# EAGLE library part XC3S200AFT256 (library xilinx_spartan3_virtex4_and_5)
Xilinx FPGA
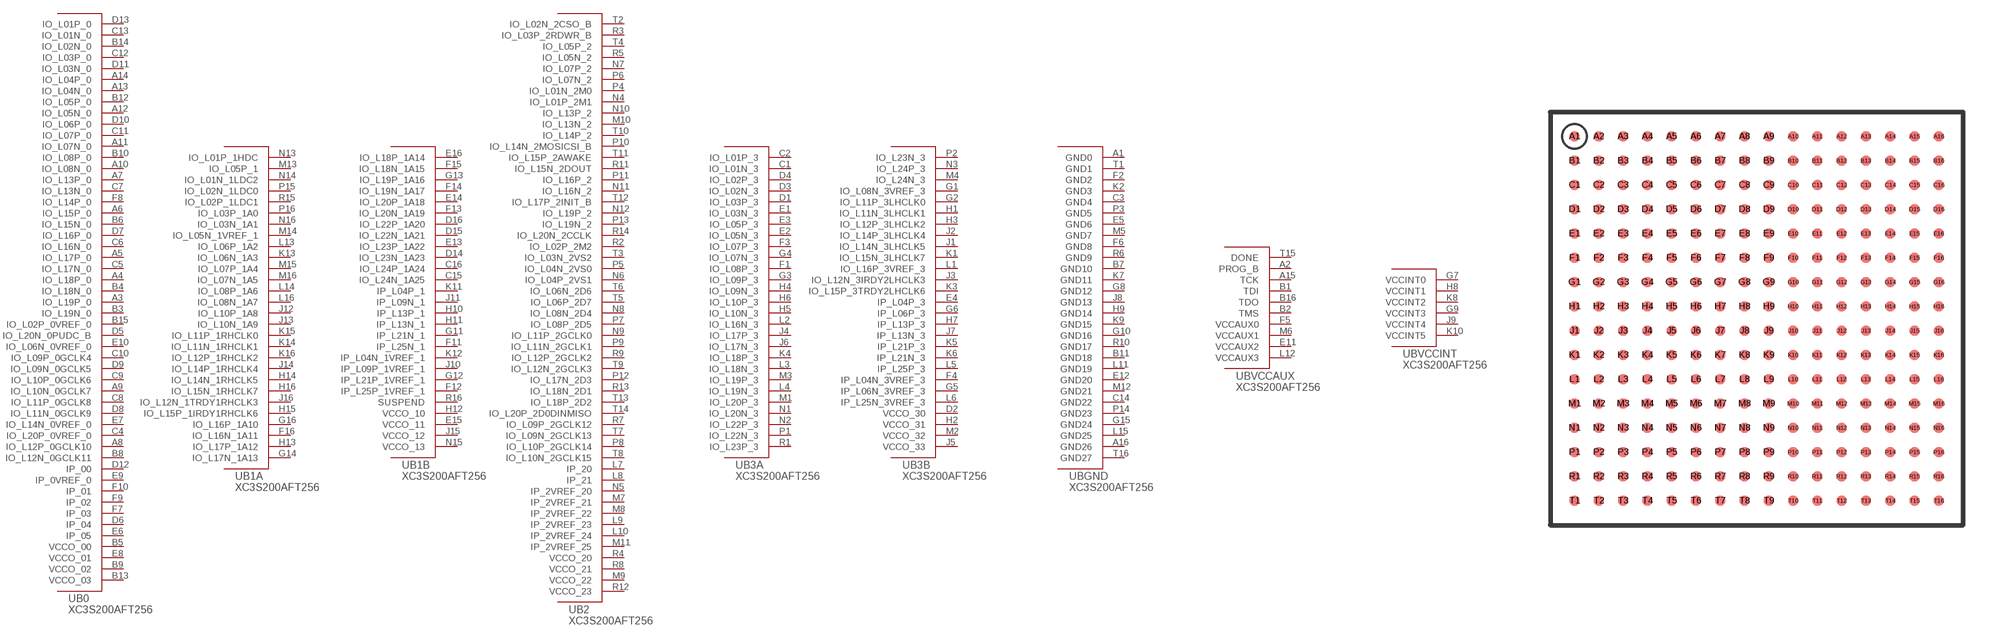
[diagram p31: symbol with the pads of FT256; footprint FT256]

Designator prefix U; gates B0=XC3S200AFT256_0 B1A=XC3S200AFT256_1A B1B=XC3S200AFT256_1B B2=XC3S200AFT256_2 B3A=XC3S200AFT256_3A B3B=XC3S200AFT256_3B BGND=XC3S200AFT256_GND BVCCAUX=XC3S200AFT256_VCCAUX BVCCINT=XC3S200AFT256_VCCINT

## XC3S200AFT256  [FT256]
A1  BGND:GND0  pas
A2  BVCCAUX:PROG_B
A3  B0:IO_L19P_0
A4  B0:IO_L18P_0
A5  B0:IO_L17P_0
A6  B0:IO_L15P_0
A7  B0:IO_L13P_0
A8  B0:IO_L12P_0GCLK10
A9  B0:IO_L10N_0GCLK7
A10  B0:IO_L08N_0
A11  B0:IO_L07N_0
A12  B0:IO_L05N_0
A13  B0:IO_L04N_0
A14  B0:IO_L04P_0
A15  BVCCAUX:TCK
A16  BGND:GND26  pas
B1  BVCCAUX:TDI
B2  BVCCAUX:TMS
B3  B0:IO_L19N_0
B4  B0:IO_L18N_0
B5  B0:VCCO_00  pas
B6  B0:IO_L15N_0
B7  BGND:GND10  pas
B8  B0:IO_L12N_0GCLK11
B9  B0:VCCO_02  pas
B10  B0:IO_L08P_0
B11  BGND:GND18  pas
B12  B0:IO_L05P_0
B13  B0:VCCO_03  pas
B14  B0:IO_L02N_0
B15  B0:IO_L02P_0VREF_0
B16  BVCCAUX:TDO
C1  B3A:IO_L01N_3
C2  B3A:IO_L01P_3
C3  BGND:GND4  pas
C4  B0:IO_L20P_0VREF_0
C5  B0:IO_L17N_0
C6  B0:IO_L16N_0
C7  B0:IO_L13N_0
C8  B0:IO_L11P_0GCLK8
C9  B0:IO_L10P_0GCLK6
C10  B0:IO_L09P_0GCLK4
C11  B0:IO_L07P_0
C12  B0:IO_L03P_0
C13  B0:IO_L01N_0
C14  BGND:GND22  pas
C15  B1B:IO_L24N_1A25
C16  B1B:IO_L24P_1A24
D1  B3A:IO_L03P_3
D2  B3B:VCCO_30  pas
D3  B3A:IO_L02N_3
D4  B3A:IO_L02P_3
D5  B0:IO_L20N_0PUDC_B
D6  B0:IP_04
D7  B0:IO_L16P_0
D8  B0:IO_L11N_0GCLK9
D9  B0:IO_L09N_0GCLK5
D10  B0:IO_L06P_0
D11  B0:IO_L03N_0
D12  B0:IP_00
D13  B0:IO_L01P_0
D14  B1B:IO_L23N_1A23
D15  B1B:IO_L22N_1A21
D16  B1B:IO_L22P_1A20
E1  B3A:IO_L03N_3
E2  B3A:IO_L05N_3
E3  B3A:IO_L05P_3
E4  B3B:IP_L04P_3
E5  BGND:GND6  pas
E6  B0:IP_05
E7  B0:IO_L14N_0VREF_0
E8  B0:VCCO_01  pas
E9  B0:IP_0VREF_0
E10  B0:IO_L06N_0VREF_0
E11  BVCCAUX:VCCAUX2  pas
E12  BGND:GND20  pas
E13  B1B:IO_L23P_1A22
E14  B1B:IO_L20P_1A18
E15  B1B:VCCO_11  pas
E16  B1B:IO_L18P_1A14
F1  B3A:IO_L08P_3
F2  BGND:GND2  pas
F3  B3A:IO_L07P_3
F4  B3B:IP_L04N_3VREF_3
F5  BVCCAUX:VCCAUX0  pas
F6  BGND:GND8  pas
F7  B0:IP_03
F8  B0:IO_L14P_0
F9  B0:IP_02
F10  B0:IP_01
F11  B1B:IP_L25N_1
F12  B1B:IP_L25P_1VREF_1
F13  B1B:IO_L20N_1A19
F14  B1B:IO_L19N_1A17
F15  B1B:IO_L18N_1A15
F16  B1A:IO_L16N_1A11
G1  B3B:IO_L08N_3VREF_3
G2  B3B:IO_L11P_3LHCLK0
G3  B3A:IO_L09P_3
G4  B3A:IO_L07N_3
G5  B3B:IP_L06N_3VREF_3
G6  B3B:IP_L06P_3
G7  BVCCINT:VCCINT0  pas
G8  BGND:GND12  pas
G9  BVCCINT:VCCINT3  pas
G10  BGND:GND16  pas
G11  B1B:IP_L21N_1
G12  B1B:IP_L21P_1VREF_1
G13  B1B:IO_L19P_1A16
G14  B1A:IO_L17N_1A13
G15  BGND:GND24  pas
G16  B1A:IO_L16P_1A10
H1  B3B:IO_L11N_3LHCLK1
H2  B3B:VCCO_31  pas
H3  B3B:IO_L12P_3LHCLK2
H4  B3A:IO_L09N_3
H5  B3A:IO_L10N_3
H6  B3A:IO_L10P_3
H7  B3B:IP_L13P_3
H8  BVCCINT:VCCINT1  pas
H9  BGND:GND14  pas
H10  B1B:IP_L13P_1
H11  B1B:IP_L13N_1
H12  B1B:VCCO_10  pas
H13  B1A:IO_L17P_1A12
H14  B1A:IO_L14N_1RHCLK5
H15  B1A:IO_L15P_1IRDY1RHCLK6
H16  B1A:IO_L15N_1RHCLK7
J1  B3B:IO_L14N_3LHCLK5
J2  B3B:IO_L14P_3LHCLK4
J3  B3B:IO_L12N_3IRDY2LHCLK3
J4  B3A:IO_L17P_3
J5  B3B:VCCO_33  pas
J6  B3A:IO_L17N_3
J7  B3B:IP_L13N_3
J8  BGND:GND13  pas
J9  BVCCINT:VCCINT4  pas
J10  B1B:IP_L09P_1VREF_1
J11  B1B:IP_L09N_1
J12  B1A:IO_L10P_1A8
J13  B1A:IO_L10N_1A9
J14  B1A:IO_L14P_1RHCLK4
J15  B1B:VCCO_12  pas
J16  B1A:IO_L12N_1TRDY1RHCLK3
K1  B3B:IO_L15N_3LHCLK7
K2  BGND:GND3  pas
K3  B3B:IO_L15P_3TRDY2LHCLK6
K4  B3A:IO_L18P_3
K5  B3B:IP_L21P_3
K6  B3B:IP_L21N_3
K7  BGND:GND11  pas
K8  BVCCINT:VCCINT2  pas
K9  BGND:GND15  pas
K10  BVCCINT:VCCINT5  pas
K11  B1B:IP_L04P_1
K12  B1B:IP_L04N_1VREF_1
K13  B1A:IO_L06N_1A3
K14  B1A:IO_L11N_1RHCLK1
K15  B1A:IO_L11P_1RHCLK0
K16  B1A:IO_L12P_1RHCLK2
L1  B3B:IO_L16P_3VREF_3
L2  B3A:IO_L16N_3
L3  B3A:IO_L18N_3
L4  B3A:IO_L19N_3
L5  B3B:IP_L25P_3
L6  B3B:IP_L25N_3VREF_3
L7  B2:IP_20
L8  B2:IP_21
L9  B2:IP_2VREF_23
L10  B2:IP_2VREF_24
L11  BGND:GND19  pas
L12  BVCCAUX:VCCAUX3  pas
L13  B1A:IO_L06P_1A2
L14  B1A:IO_L08P_1A6
L15  BGND:GND25  pas
L16  B1A:IO_L08N_1A7
M1  B3A:IO_L20P_3
M2  B3B:VCCO_32  pas
M3  B3A:IO_L19P_3
M4  B3B:IO_L24N_3
M5  BGND:GND7  pas
M6  BVCCAUX:VCCAUX1  pas
M7  B2:IP_2VREF_21
M8  B2:IP_2VREF_22
M9  B2:VCCO_22  pas
M10  B2:IO_L13N_2
M11  B2:IP_2VREF_25
M12  BGND:GND21  pas
M13  B1A:IO_L05P_1
M14  B1A:IO_L05N_1VREF_1
M15  B1A:IO_L07P_1A4
M16  B1A:IO_L07N_1A5
N1  B3A:IO_L20N_3
N2  B3A:IO_L22P_3
N3  B3B:IO_L24P_3
N4  B2:IO_L01P_2M1
N5  B2:IP_2VREF_20
N6  B2:IO_L04P_2VS1
N7  B2:IO_L07P_2
N8  B2:IO_L08N_2D4
N9  B2:IO_L11P_2GCLK0
N10  B2:IO_L13P_2
N11  B2:IO_L16N_2
N12  B2:IO_L19P_2
N13  B1A:IO_L01P_1HDC
N14  B1A:IO_L01N_1LDC2
N15  B1B:VCCO_13  pas
N16  B1A:IO_L03N_1A1
P1  B3A:IO_L22N_3
P2  B3B:IO_L23N_3
P3  BGND:GND5  pas
P4  B2:IO_L01N_2M0
P5  B2:IO_L04N_2VS0
P6  B2:IO_L07N_2
P7  B2:IO_L08P_2D5
P8  B2:IO_L10P_2GCLK14
P9  B2:IO_L11N_2GCLK1
P10  B2:IO_L14N_2MOSICSI_B
P11  B2:IO_L16P_2
P12  B2:IO_L17N_2D3
P13  B2:IO_L19N_2
P14  BGND:GND23  pas
P15  B1A:IO_L02N_1LDC0
P16  B1A:IO_L03P_1A0
R1  B3A:IO_L23P_3
R2  B2:IO_L02P_2M2
R3  B2:IO_L03P_2RDWR_B
R4  B2:VCCO_20  pas
R5  B2:IO_L05N_2
R6  BGND:GND9  pas
R7  B2:IO_L09P_2GCLK12
R8  B2:VCCO_21  pas
R9  B2:IO_L12P_2GCLK2
R10  BGND:GND17  pas
R11  B2:IO_L15N_2DOUT
R12  B2:VCCO_23  pas
R13  B2:IO_L18N_2D1
R14  B2:IO_L20N_2CCLK
R15  B1A:IO_L02P_1LDC1
R16  B1B:SUSPEND
T1  BGND:GND1  pas
T2  B2:IO_L02N_2CSO_B
T3  B2:IO_L03N_2VS2
T4  B2:IO_L05P_2
T5  B2:IO_L06P_2D7
T6  B2:IO_L06N_2D6
T7  B2:IO_L09N_2GCLK13
T8  B2:IO_L10N_2GCLK15
T9  B2:IO_L12N_2GCLK3
T10  B2:IO_L14P_2
T11  B2:IO_L15P_2AWAKE
T12  B2:IO_L17P_2INIT_B
T13  B2:IO_L18P_2D2
T14  B2:IO_L20P_2D0DINMISO
T15  BVCCAUX:DONE
T16  BGND:GND27  pas

## Footprint FT256 (pad centres in mm)
smd 0.4 x 0.4: A1 -7.5,7.5; A2 -6.5,7.5; A3 -5.5,7.5; A4 -4.5,7.5; A5 -3.5,7.5; A6 -2.5,7.5; A7 -1.5,7.5; A8 -0.5,7.5; A9 0.5,7.5; A10 1.5,7.5; A11 2.5,7.5; A12 3.5,7.5; A13 4.5,7.5; A14 5.5,7.5; A15 6.5,7.5; A16 7.5,7.5; B1 -7.5,6.5; B2 -6.5,6.5; B3 -5.5,6.5; B4 -4.5,6.5; B5 -3.5,6.5; B6 -2.5,6.5; B7 -1.5,6.5; B8 -0.5,6.5; B9 0.5,6.5; B10 1.5,6.5; B11 2.5,6.5; B12 3.5,6.5; B13 4.5,6.5; B14 5.5,6.5; B15 6.5,6.5; B16 7.5,6.5; C1 -7.5,5.5; C2 -6.5,5.5; C3 -5.5,5.5; C4 -4.5,5.5; C5 -3.5,5.5; C6 -2.5,5.5; C7 -1.5,5.5; C8 -0.5,5.5; C9 0.5,5.5; C10 1.5,5.5; C11 2.5,5.5; C12 3.5,5.5; C13 4.5,5.5; C14 5.5,5.5; C15 6.5,5.5; C16 7.5,5.5; D1 -7.5,4.5; D2 -6.5,4.5; D3 -5.5,4.5; D4 -4.5,4.5; D5 -3.5,4.5; D6 -2.5,4.5; D7 -1.5,4.5; D8 -0.5,4.5; D9 0.5,4.5; D10 1.5,4.5; D11 2.5,4.5; D12 3.5,4.5; D13 4.5,4.5; D14 5.5,4.5; D15 6.5,4.5; D16 7.5,4.5; E1 -7.5,3.5; E2 -6.5,3.5; E3 -5.5,3.5; E4 -4.5,3.5; E5 -3.5,3.5; E6 -2.5,3.5; E7 -1.5,3.5; E8 -0.5,3.5; E9 0.5,3.5; E10 1.5,3.5; E11 2.5,3.5; E12 3.5,3.5; E13 4.5,3.5; E14 5.5,3.5; E15 6.5,3.5; E16 7.5,3.5; F1 -7.5,2.5; F2 -6.5,2.5; F3 -5.5,2.5; F4 -4.5,2.5; F5 -3.5,2.5; F6 -2.5,2.5; F7 -1.5,2.5; F8 -0.5,2.5; F9 0.5,2.5; F10 1.5,2.5; F11 2.5,2.5; F12 3.5,2.5; F13 4.5,2.5; F14 5.5,2.5; F15 6.5,2.5; F16 7.5,2.5; G1 -7.5,1.5; G2 -6.5,1.5; G3 -5.5,1.5; G4 -4.5,1.5; G5 -3.5,1.5; G6 -2.5,1.5; G7 -1.5,1.5; G8 -0.5,1.5; G9 0.5,1.5; G10 1.5,1.5; G11 2.5,1.5; G12 3.5,1.5; G13 4.5,1.5; G14 5.5,1.5; G15 6.5,1.5; G16 7.5,1.5; H1 -7.5,0.5; H2 -6.5,0.5; H3 -5.5,0.5; H4 -4.5,0.5; H5 -3.5,0.5; H6 -2.5,0.5; H7 -1.5,0.5; H8 -0.5,0.5; H9 0.5,0.5; H10 1.5,0.5; H11 2.5,0.5; H12 3.5,0.5; H13 4.5,0.5; H14 5.5,0.5; H15 6.5,0.5; H16 7.5,0.5; J1 -7.5,-0.5; J2 -6.5,-0.5; J3 -5.5,-0.5; J4 -4.5,-0.5; J5 -3.5,-0.5; J6 -2.5,-0.5; J7 -1.5,-0.5; J8 -0.5,-0.5; J9 0.5,-0.5; J10 1.5,-0.5; J11 2.5,-0.5; J12 3.5,-0.5; J13 4.5,-0.5; J14 5.5,-0.5; J15 6.5,-0.5; J16 7.5,-0.5; K1 -7.5,-1.5; K2 -6.5,-1.5; K3 -5.5,-1.5; K4 -4.5,-1.5; K5 -3.5,-1.5; K6 -2.5,-1.5; K7 -1.5,-1.5; K8 -0.5,-1.5; K9 0.5,-1.5; K10 1.5,-1.5; K11 2.5,-1.5; K12 3.5,-1.5; K13 4.5,-1.5; K14 5.5,-1.5; K15 6.5,-1.5; K16 7.5,-1.5; L1 -7.5,-2.5; L2 -6.5,-2.5; L3 -5.5,-2.5; L4 -4.5,-2.5; L5 -3.5,-2.5; L6 -2.5,-2.5; L7 -1.5,-2.5; L8 -0.5,-2.5; L9 0.5,-2.5; L10 1.5,-2.5; L11 2.5,-2.5; L12 3.5,-2.5; L13 4.5,-2.5; L14 5.5,-2.5; L15 6.5,-2.5; L16 7.5,-2.5; M1 -7.5,-3.5; M2 -6.5,-3.5; M3 -5.5,-3.5; M4 -4.5,-3.5; M5 -3.5,-3.5; M6 -2.5,-3.5; M7 -1.5,-3.5; M8 -0.5,-3.5; M9 0.5,-3.5; M10 1.5,-3.5; M11 2.5,-3.5; M12 3.5,-3.5; M13 4.5,-3.5; M14 5.5,-3.5; M15 6.5,-3.5; M16 7.5,-3.5; N1 -7.5,-4.5; N2 -6.5,-4.5; N3 -5.5,-4.5; N4 -4.5,-4.5; N5 -3.5,-4.5; N6 -2.5,-4.5; N7 -1.5,-4.5; N8 -0.5,-4.5; N9 0.5,-4.5; N10 1.5,-4.5; N11 2.5,-4.5; N12 3.5,-4.5; N13 4.5,-4.5; N14 5.5,-4.5; N15 6.5,-4.5; N16 7.5,-4.5; P1 -7.5,-5.5; P2 -6.5,-5.5; P3 -5.5,-5.5; P4 -4.5,-5.5; P5 -3.5,-5.5; P6 -2.5,-5.5; P7 -1.5,-5.5; P8 -0.5,-5.5; P9 0.5,-5.5; P10 1.5,-5.5; P11 2.5,-5.5; P12 3.5,-5.5; P13 4.5,-5.5; P14 5.5,-5.5; P15 6.5,-5.5; P16 7.5,-5.5; R1 -7.5,-6.5; R2 -6.5,-6.5; R3 -5.5,-6.5; R4 -4.5,-6.5; R5 -3.5,-6.5; R6 -2.5,-6.5; R7 -1.5,-6.5; R8 -0.5,-6.5; R9 0.5,-6.5; R10 1.5,-6.5; R11 2.5,-6.5; R12 3.5,-6.5; R13 4.5,-6.5; R14 5.5,-6.5; R15 6.5,-6.5; R16 7.5,-6.5; T1 -7.5,-7.5; T2 -6.5,-7.5; T3 -5.5,-7.5; T4 -4.5,-7.5; T5 -3.5,-7.5; T6 -2.5,-7.5; T7 -1.5,-7.5; T8 -0.5,-7.5; T9 0.5,-7.5; T10 1.5,-7.5; T11 2.5,-7.5; T12 3.5,-7.5; T13 4.5,-7.5; T14 5.5,-7.5; T15 6.5,-7.5; T16 7.5,-7.5